# Altium footprint library IC_NXP_PCA9548ABS,118_I2C_8Channel.PcbLib: 1 footprints
Each footprint in its own frame and in the unit in brackets; x right, y up, seen from the top. Pads: shape width x height; smd on the part's side, far side on the other; paste and mask are expansions set on the pad; w line width, h text height; cw(c..) or ccw(c..) is an arc to the next point about the centre after c.
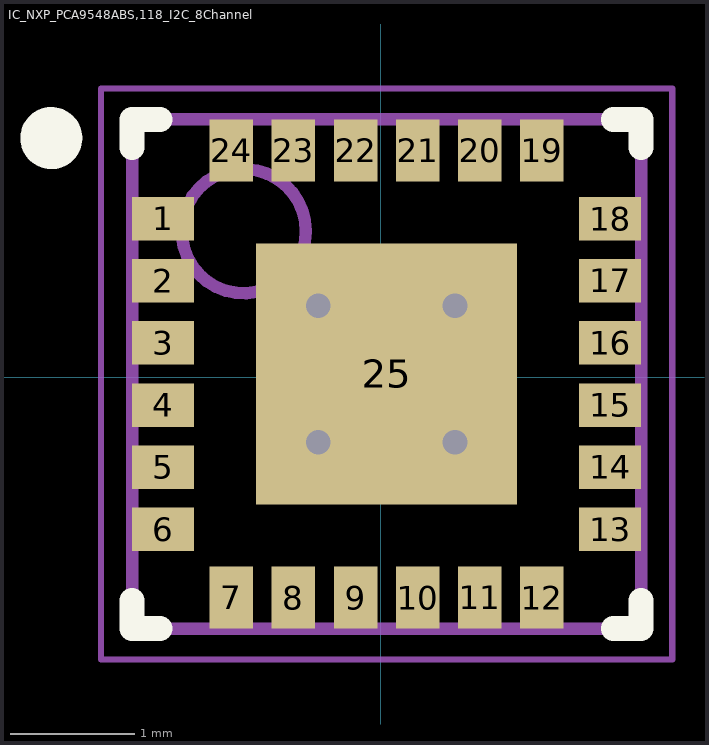
[diagram p0: the footprint, top view; thin cyan lines are the x and y axes]

## IC_NXP_PCA9548ABS,118_I2C_8Channel [mm]
pads (25):
  rect 0.5x0.35 smd: 1(-1.754,1.274) 2(-1.754,0.774) 3(-1.754,0.274) 4(-1.754,-0.226) 5(-1.754,-0.726) 6(-1.754,-1.226) 13(1.846,-1.226) 14(1.846,-0.726) 15(1.846,-0.226) 16(1.846,0.274) 17(1.846,0.774) 18(1.846,1.274)
  rect 0.35x0.5 smd: 7(-1.204,-1.776) 8(-0.704,-1.776) 9(-0.204,-1.776) 10(0.296,-1.776) 11(0.796,-1.776) 12(1.296,-1.776) 19(1.296,1.824) 20(0.796,1.824) 21(0.296,1.824) 22(-0.204,1.824) 23(-0.704,1.824) 24(-1.204,1.824)
  rect 2.1x2.1 smd paste-10: 25(0.046,0.024)
via 0.596,-0.526 diameter 0.5 hole 0.2
via -0.504,-0.526 diameter 0.5 hole 0.2
via 0.596,0.574 diameter 0.5 hole 0.2
via -0.504,0.574 diameter 0.5 hole 0.2
Top Overlay:
  circle w0.25: c-2.654,1.924 r0.125
  lines w0.2: -2.004,-1.801 -2.004,-2.026 -1.779,-2.026 ; -2.004,1.849 -2.004,2.074 -1.779,2.074 ; 1.871,-2.026 2.096,-2.026 2.096,-1.801 ; 1.871,2.074 2.096,2.074 2.096,1.849
Top Paste:
  rectangle: 0.344,-0.741 0.794,-0.291
  rectangle: 0.344,-0.217 0.794,0.233
  rectangle: -0.181,-0.741 0.269,-0.291
  rectangle: -0.181,-0.217 0.269,0.233
  rectangle: -0.704,-0.741 -0.254,-0.291
  rectangle: -0.706,-0.217 -0.256,0.233
  rectangle: 0.344,0.309 0.794,0.759
  rectangle: -0.181,0.309 0.269,0.759
  rectangle: -0.728,0.313 -0.278,0.763
Mechanical 13:
  circle w0.1: c-1.104,1.174 r0.5
  lines w0.1: -2.004,-2.026 2.096,-2.026 2.096,2.074 -2.004,2.074 -2.004,-2.026
Mechanical 15:
  lines w0.05: -2.254,-2.276 2.346,-2.276 2.346,2.324 -2.254,2.324 -2.254,-2.276
  lines w0.1: -0.454,0.024 0.546,0.024 ; 0.046,-0.476 0.046,0.524
3D body "PQFN50P400X400X100_HS-25N.step": height 1, standoff 0, extent -2.004,-2.026 2.096,2.074